# EAGLE library part ELMA12ROT (library lbm)
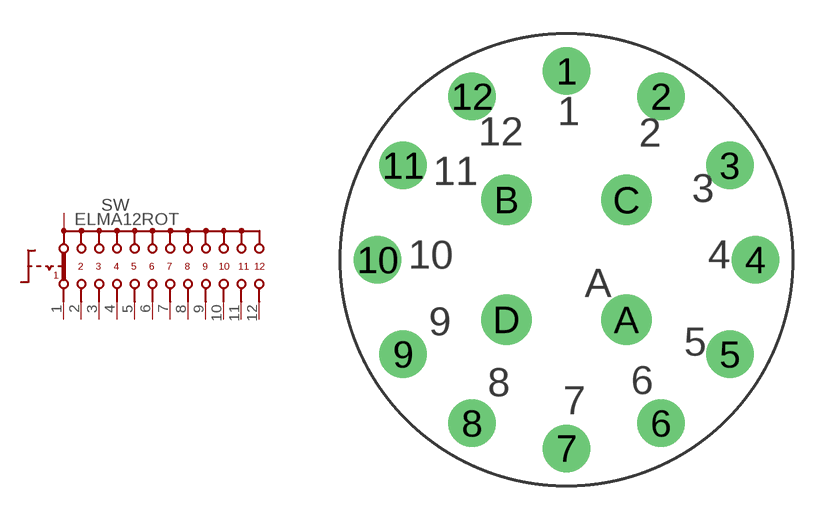
[diagram p16: symbol with the pads of ELMA12ROT; footprint ELMA12ROT]

Designator prefix SW

## ELMA12ROT  [ELMA12ROT]
1  1  pas
2  2  pas
3  3  pas
4  4  pas
5  5  pas
6  6  pas
7  7  pas
8  8  pas
9  9  pas
10  10  pas
11  11  pas
12  12  pas
A  OUT  pas

## Footprint ELMA12ROT (pad centres in mm)
drill 1.4 round: 1 0,8.35; 2 4.175,7.231; 3 7.231,4.175; 4 8.35,0; 5 7.231,-4.175; 6 4.175,-7.231; 7 0,-8.35; 8 -4.175,-7.231; 9 -7.231,-4.175; 10 -8.35,0; 11 -7.231,4.175; 12 -4.175,7.231
drill 1.5 round: A 2.651,-2.651; B -2.651,2.651; C 2.651,2.651; D -2.651,-2.651